# Altium footprint library crystal_oscillators_rtc.PcbLib: 13 footprints
Each footprint in its own frame and in the unit in brackets; x right, y up, seen from the top. Pads: shape width x height; smd on the part's side, far side on the other; paste and mask are expansions set on the pad; w line width, h text height; cw(c..) or ccw(c..) is an arc to the next point about the centre after c.
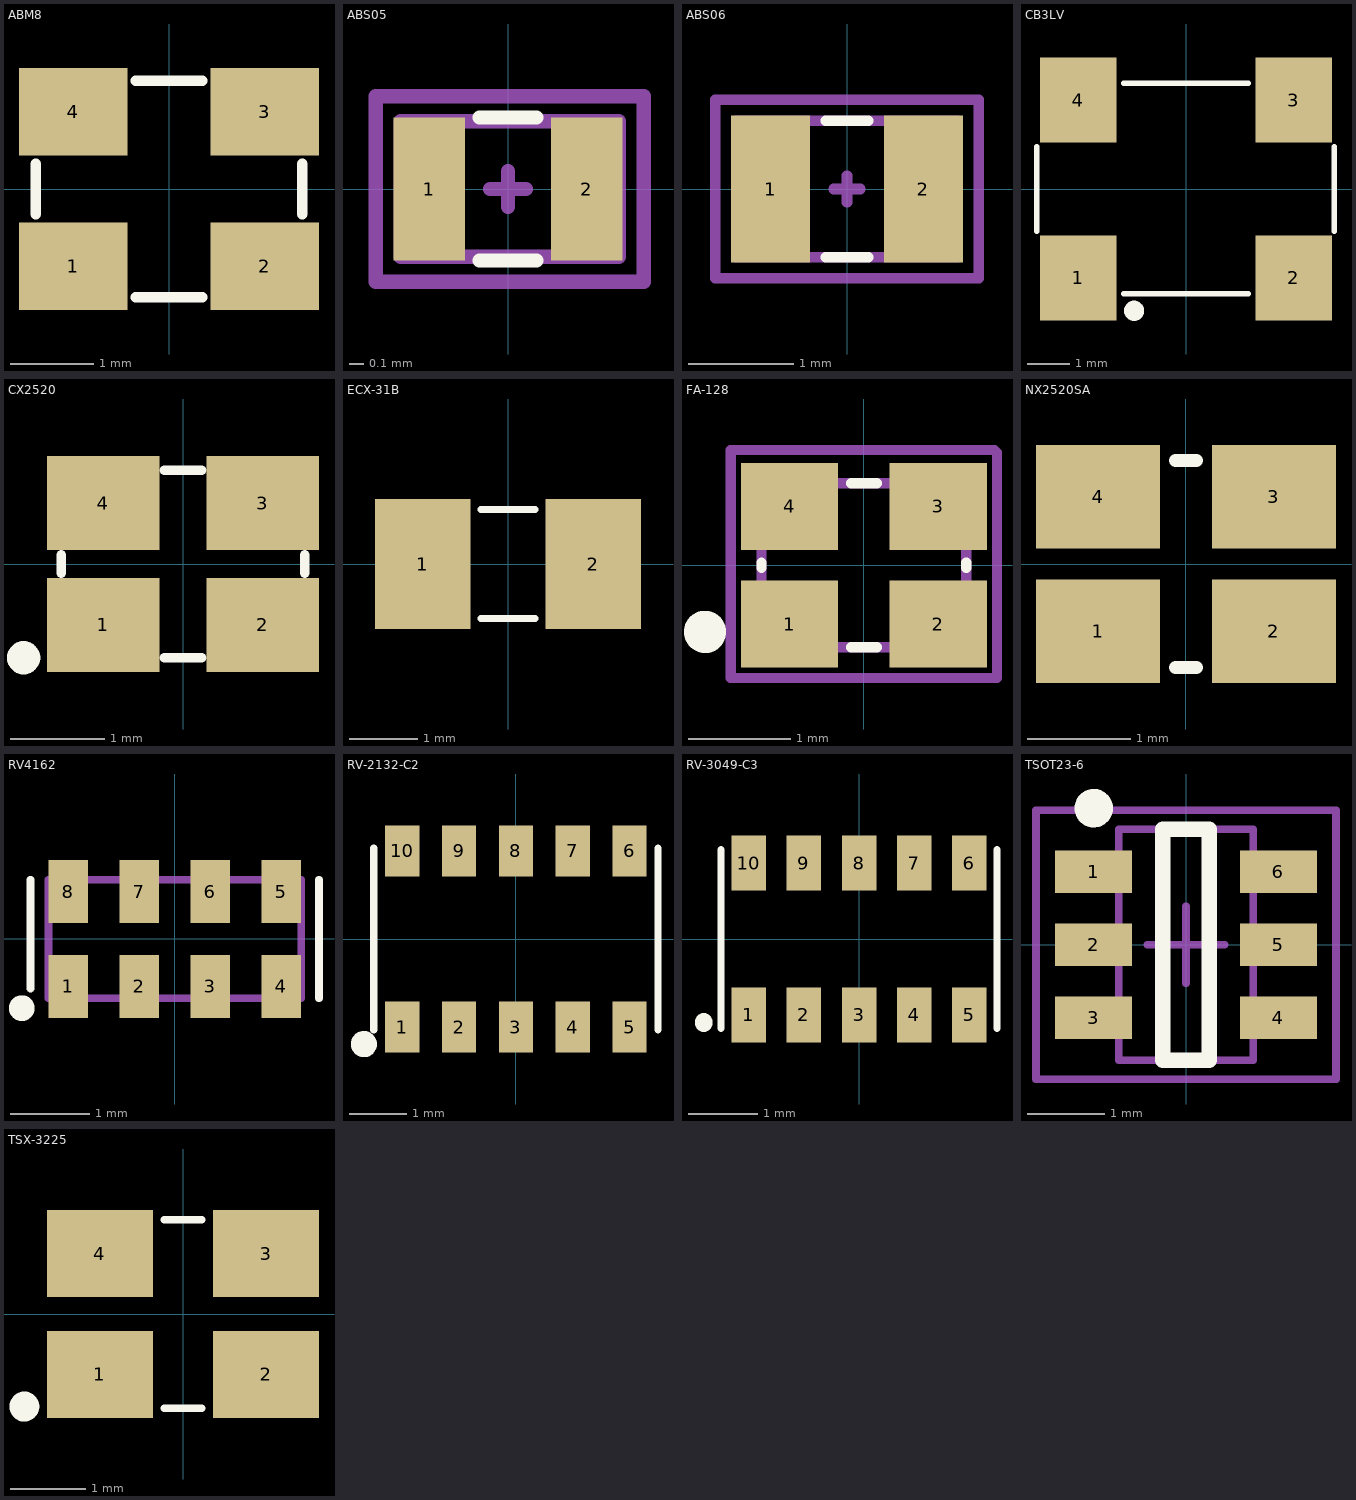
[diagram p0: the footprints below, top view; thin cyan lines are the x and y axes]

## ABM8 [mm]
pads (4):
  rect 1.3x1.05 smd: 1(-1.15,-0.925) 2(1.15,-0.925) 3(1.15,0.925) 4(-1.15,0.925)
Top Overlay:
  lines w0.127: -1.6,-0.3 -1.6,0.3 ; -0.4,-1.3 0.4,-1.3 ; -0.4,1.3 0.4,1.3 ; 1.6,-0.3 1.6,0.3
3D body: height 0.65, standoff 0, extent -1.6,-1.3 1.6,1.3

## ABS05 [mm] "ABS05 Crystal"
pads (2):
  rect 0.5x1 smd: 1(-0.55,0) 2(0.55,0)
Top Overlay:
  lines w0.1: -0.2,-0.5 0.2,-0.5 ; -0.2,0.5 0.2,0.5
Mechanical 13:
  lines w0.1: -0.75,-0.475 -0.75,0.475 0.775,0.475 0.775,-0.475 -0.75,-0.475
Mechanical 15:
  lines w0.1: -0.125,0 0.125,0 ; 0,-0.125 0,0.125 ; -0.925,-0.65 -0.925,0.65 0.95,0.65 0.95,-0.65 -0.925,-0.65
3D body: height 0.5, standoff 0.45, extent -0.725,-0.4 0.725,0.425
3D body: height 0.45, standoff 0, extent -0.8,-0.5 0.8,0.5

## ABS06 [mm] "ABS06 Crystal"
pads (2):
  rect 0.75x1.4 smd: 1(-0.725,0) 2(0.725,0)
Top Overlay:
  lines w0.1: -0.2,-0.65 0.2,-0.65 ; -0.2,0.65 0.2,0.65
Mechanical 13:
  lines w0.1: -1.05,-0.65 -1.05,0.65 1.05,0.65 1.05,-0.65 -1.05,-0.65
Mechanical 15:
  lines w0.1: -0.125,0 0.125,0 ; 0,-0.125 0,0.125 ; -1.25,-0.85 -1.25,0.85 1.25,0.85 1.25,-0.85 -1.25,-0.85
3D body: height 0.6, standoff 0.55, extent -0.95,-0.55 0.95,0.55
3D body: height 0.55, standoff 0, extent -1,-0.6 1,0.6

## CB3LV [mm] "CTS CB3LV Oscillator"
pads (4):
  rect 1.8x2 smd: 1(-2.54,-2.1) 2(2.54,-2.1) 3(2.54,2.1) 4(-2.54,2.1)
Top Overlay:
  circle w0.254: c-1.225,-2.875 r0.112
  lines w0.127: -3.525,-1 -3.525,1 ; -1.475,-2.475 1.475,-2.475 ; -1.475,2.5 1.475,2.5 ; 3.5,-1 3.5,1
3D body: height 1.8, standoff 0, extent -3.5,-2.5 3.5,2.5

## CX2520 [mm] "Kyocera CX2520 crystal"
pads (4):
  rect 1.2x1 smd: 1(-0.85,-0.65) 2(0.85,-0.65) 3(0.85,0.65) 4(-0.85,0.65)
Top Overlay:
  circle w0.254: c-1.7,-1 r0.05
  lines w0.1: -1.3,-0.1 -1.3,0.1 ; -0.2,-1 0.2,-1 ; -0.2,1 0.2,1 ; 1.3,-0.1 1.3,0.1
3D body: height 0.5, standoff 0, extent -1.3,-1 1.3,1

## ECX-31B [mm] "ECX-31B"
pads (2):
  rect 1.4x1.9 smd: 1(-1.25,0) 2(1.25,0)
Top Overlay:
  lines w0.1: -0.4,-0.8 0.4,-0.8 ; -0.4,0.8 0.4,0.8
3D body: height 0.9, standoff 0, extent -1.6,-0.8 1.6,0.8

## FA-128 [mm] "Seiko Epson FA-128 Crystal"
pads (4):
  rect 0.95x0.85 smd: 1(-0.725,-0.575) 2(0.725,-0.575) 3(0.725,0.575) 4(-0.725,0.575)
Top Overlay:
  circle w0.254: c-1.55,-0.65 r0.079
  lines w0.1: -1,-0.025 -1,0.025 ; -0.125,-0.8 0.125,-0.8 ; -0.125,0.8 0.125,0.8 ; 1,-0.025 1,0.025
Mechanical 13:
  lines w0.1: -1,-0.8 -1,0 -1,0.8 0.975,0.8 1,0.775 1,-0.8 0,-0.8 -1,-0.8
Mechanical 15:
  lines w0.1: -1.3,-1.1 -1.3,1.125 1.275,1.125 1.3,1.1 1.3,-1.1 -1.3,-1.1
3D body: height 0.5, standoff 0, extent -1,-0.8 1,0.8

## NX2520SA [mm] "NDK Crystal"
pads (4):
  rect 1.2x1 smd: 1(-0.85,-0.65) 2(0.85,-0.65) 3(0.85,0.65) 4(-0.85,0.65)
Top Overlay:
  lines w0.127: -0.1,-1 0.1,-1 ; -0.1,1 0.1,1
3D body: height 0.65, standoff 0, extent -1.3,-1 1.3,1

## RV4162 [mm] "RTC"
pads (8):
  rect 0.5x0.8 smd: 1(-1.35,-0.6) 2(-0.45,-0.6) 3(0.45,-0.6) 4(1.35,-0.6) 5(1.35,0.6) 6(0.45,0.6) 7(-0.45,0.6) 8(-1.35,0.6)
Top Overlay:
  circle w0.254: c-1.935,-0.875 r0.035
  lines w0.1: -1.825,-0.625 -1.825,0.75 ; 1.825,-0.75 1.825,0.75
Mechanical 13:
  lines w0.1: -1.6,-0.75 -1.6,0.75 1.6,0.75 1.6,-0.75 -1.6,-0.75
3D body: height 0.8, standoff 0, extent -1.6,-0.75 1.6,0.75

## RV-2132-C2 [mm]
pads (10):
  rect 0.6x0.9 smd: 1(-2,-1.55) 2(-1,-1.55) 3(0,-1.55) 4(1,-1.55) 5(2,-1.55) 6(2,1.55) 7(1,1.55) 8(0,1.55) 9(-1,1.55) 10(-2,1.55)
Top Overlay:
  circle w0.254: c-2.675,-1.85 r0.103
  lines w0.127: -2.5,-1.6 -2.5,1.6 ; 2.5,-1.6 2.5,1.6
3D body: height 1.2, standoff 0, extent -2.5,-1.6 2.5,1.6

## RV-3049-C3 [mm] "RV-3049-C3"
pads (10):
  rect 0.5x0.8 smd: 1(-1.6,-1.1) 2(-0.8,-1.1) 3(0,-1.1) 4(0.8,-1.1) 5(1.6,-1.1) 6(1.6,1.1) 7(0.8,1.1) 8(0,1.1) 9(-0.8,1.1) 10(-1.6,1.1)
Top Overlay:
  lines w0.1: -2,-1.3 -2,1.3 ; 2,-1.3 2,1.3
  lines w0.254: -2.255,-1.222 ccw(c-2.3,-1.2) -2.25,-1.2
3D body: height 0.9, standoff 0, extent -1.9,-1.3 1.9,1.3

## TSOT23-6 [mm] "SOT23, 6-Leads, Body 3.0x2.9mm (max), Pitch 0.95mm, IPC Medium Density"
height 1
pads (6):
  rect 1x0.55 smd: 1(-1.2,0.95) 2(-1.2,0) 3(-1.2,-0.95) 4(1.2,-0.95) 5(1.2,0) 6(1.2,0.95)
Top Overlay:
  circle w0.25: c-1.2,1.775 r0.125
  lines w0.2: -0.3,-1.5 -0.3,1.5 0.3,1.5 0.3,-1.5 -0.3,-1.5
Mechanical 13:
  lines w0.1: -0.875,-1.5 0.875,-1.5 0.875,1.5 -0.875,1.5 -0.875,-1.5
Mechanical 15:
  lines w0.1: -0.5,0 0.5,0 ; 0,-0.5 0,0.5 ; -1.95,-1.75 1.95,-1.75 1.95,1.75 -1.95,1.75 -1.95,-1.75
3D body: height 1, standoff 0.1, extent -0.875,-1.5 0.875,1.5

## TSX-3225 [mm] "Seiko Epson TSX-3225 Crystal"
pads (4):
  rect 1.4x1.15 smd: 1(-1.1,-0.8) 2(1.1,-0.8) 3(1.1,0.8) 4(-1.1,0.8)
Top Overlay:
  circle w0.254: c-2.1,-1.225 r0.071
  lines w0.1: -0.25,-1.25 0.25,-1.25 ; -0.25,1.25 0.25,1.25
3D body: height 0.6, standoff 0, extent -1.6,-1.25 1.6,1.25